# Altium schematic symbol library IC.SchLib: 41 symbols
Pins are listed as number, name and electrical type; pins without a type are passive.

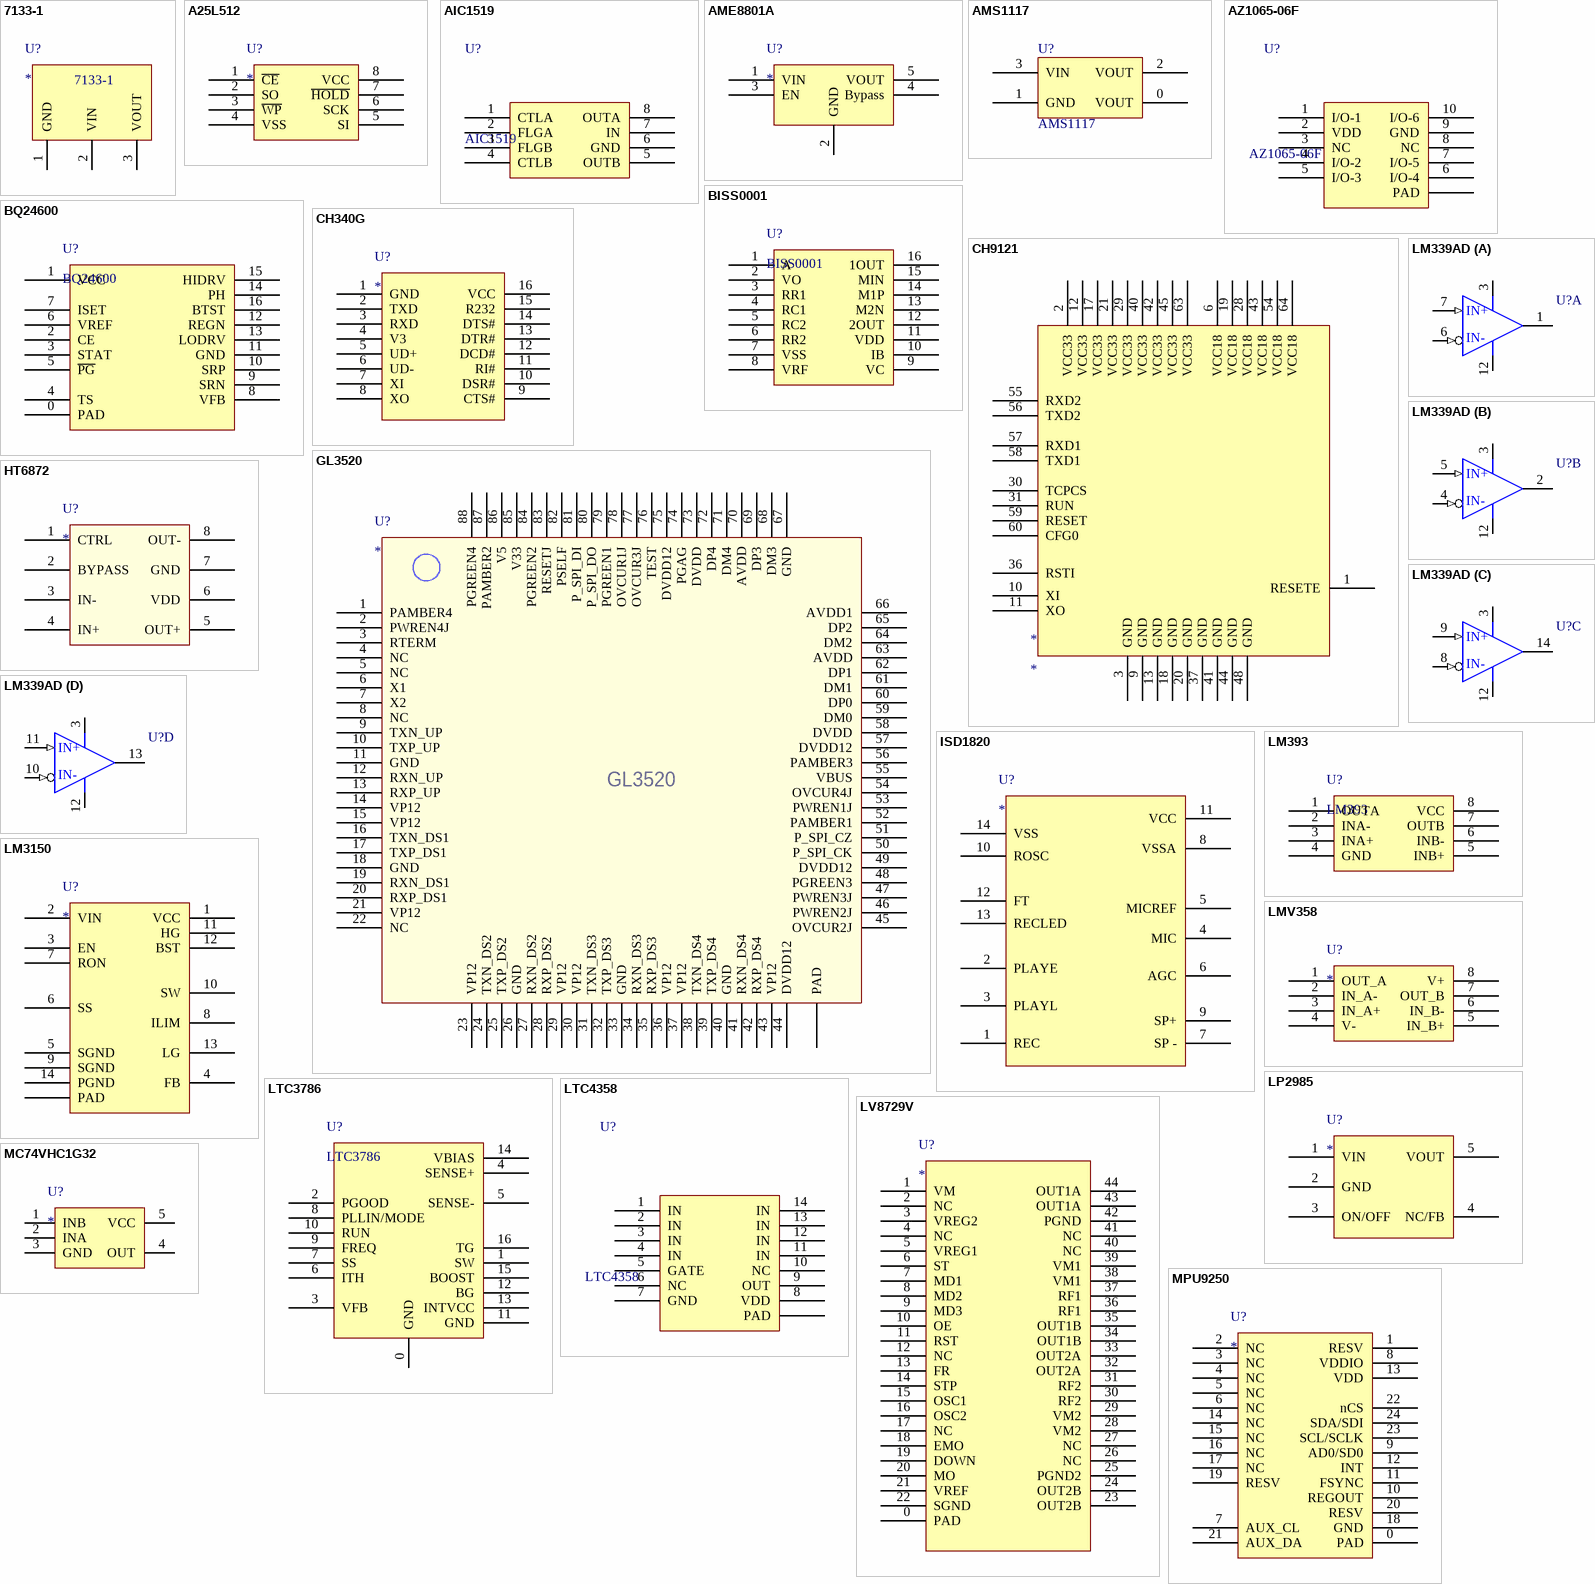
[diagram p0: symbols 7133-1 to MPU9250]

## 7133-1
designator U?
footprint SOT-89-3
pins: 1 GND, 2 VIN, 3 VOUT

## A25L512
designator U?
footprint SOP-8_150mil (SOIC, 8-Leads, Body 4.9x3.9mm, Pitch 1.27mm, IPC Medium Density)
pins: 1 ~{CE}, 2 SO, 3 ~{WP}, 4 VSS, 5 SI, 6 SCK, 7 ~{HOLD}, 8 VCC

## AIC1519
designator U?
Dual USB High-Side Power Switch
footprint SOP-8_150mil (SOIC, 8-Leads, Body 4.9x3.9mm, Pitch 1.27mm, IPC Medium Density)
pins: 1 CTLA, 2 FLGA, 3 FLGB, 4 CTLB, 5 OUTB, 6 GND, 7 IN, 8 OUTA

## AME8801A
designator U?
footprint SOT-23-5
pins: 1 VIN, 2 GND, 3 EN, 4 Bypass, 5 VOUT

## AMS1117
designator U?
Voltage Regulator; Published: 24-Mar-1999; LatestRevisionDate: 17-Jul-2002; LatestRevisionNote: Re-released for DXP Platform.; PackageReference: D2PAK; Publisher: Altium Limited; Code_JEDEC: SMD-220
footprint SOT-223
pins: 0 VOUT, 1 GND, 2 VOUT, 3 VIN

## AZ1065-06F
designator U?
footprint DFN-4120-P10E
pins: 0 PAD, 1 I/O-1, 2 VDD, 3 NC, 4 I/O-2, 5 I/O-3, 6 I/O-4, 7 I/O-5, 8 NC, 9 GND, 10 I/O-6

## BISS0001
designator U?
footprint SOP-16
pins: 1 A, 2 VO, 3 RR1, 4 RC1, 5 RC2, 6 RR2, 7 VSS, 8 VRF, 9 VC, 10 IB, 11 VDD, 12 2OUT, 13 M2N, 14 M1P, 15 MIN, 16 1OUT

## BQ24600
designator U?
Stand-Alone Synchronous Switch-Mode Li-Ion or Li-Polymer Battery Charger  with Low Iq
footprint VQFN-16_3.6x3.6x05P
pins: 0 PAD, 1 VCC, 2 CE, 3 STAT, 4 TS, 5 ~{PG}, 6 VREF, 7 ISET, 8 VFB, 9 SRN, 10 SRP, 11 GND, 12 REGN, 13 LODRV, 14 PH, 15 HIDRV, 16 BTST

## CH340G
designator U?
footprint SOP-16_150mil
pins: 1 GND, 2 TXD, 3 RXD, 4 V3, 5 UD+, 6 UD-, 7 XI, 8 XO, 9 CTS#, 10 DSR#, 11 RI#, 12 DCD#, 13 DTR#, 14 DTS#, 15 R232, 16 VCC

## CH9121
designator *
pins: 1 RESETE, 2 VCC33, 3 GND, 6 VCC18, 9 GND, 10 XI, 11 XO, 12 VCC33, 13 GND, 17 VCC33, 18 GND, 19 VCC18, 20 GND, 21 VCC33, 28 VCC18, 29 VCC33, 30 TCPCS, 31 RUN, 36 RSTI, 37 GND, 40 VCC33, 41 GND, 42 VCC33, 43 VCC18, 44 GND, 45 VCC33, 48 GND, 54 VCC18, 55 RXD2, 56 TXD2, 57 RXD1, 58 TXD1, 59 RESET, 60 CFG0, 63 VCC33, 64 VCC18

## GL3520
designator U?
USB 3.0 Hub Controller
footprint QFN-88
pins: 0 PAD, 1 PAMBER4, 2 PWREN4J, 3 RTERM, 4 NC, 5 NC, 6 X1, 7 X2, 8 NC, 9 TXN_UP, 10 TXP_UP, 11 GND, 12 RXN_UP, 13 RXP_UP, 14 VP12, 15 VP12, 16 TXN_DS1, 17 TXP_DS1, 18 GND, 19 RXN_DS1, 20 RXP_DS1, 21 VP12, 22 NC, 23 VP12, 24 TXN_DS2, 25 TXP_DS2, 26 GND, 27 RXN_DS2, 28 RXP_DS2, 29 VP12, 30 VP12, 31 TXN_DS3, 32 TXP_DS3, 33 GND, 34 RXN_DS3, 35 RXP_DS3, 36 VP12, 37 VP12, 38 TXN_DS4, 39 TXP_DS4, 40 GND, 41 RXN_DS4, 42 RXP_DS4, 43 VP12, 44 DVDD12, 45 OVCUR2J, 46 PWREN2J, 47 PWREN3J, 48 PGREEN3, 49 DVDD12, 50 P_SPI_CK, 51 P_SPI_CZ, 52 PAMBER1, 53 PWREN1J, 54 OVCUR4J, 55 VBUS, 56 PAMBER3, 57 DVDD12, 58 DVDD, 59 DM0, 60 DP0, 61 DM1, 62 DP1, 63 AVDD, 64 DM2, 65 DP2, 66 AVDD1, 67 GND, 68 DM3, 69 DP3, 70 AVDD, 71 DM4, 72 DP4, 73 DVDD, 74 PGAG, 75 DVDD12, 76 TEST, 77 OVCUR3J, 78 OVCUR1J, 79 PGREEN1, 80 P_SPI_DO, 81 P_SPI_DI, 82 PSELF, 83 RESETJ, 84 PGREEN2, 85 V33, 86 V5, 87 PAMBER2, 88 PGREEN4

## HT6872
designator U?
footprint SOP-8_150mil (SOIC, 8-Leads, Body 4.9x3.9mm, Pitch 1.27mm, IPC Medium Density)
pins: 1 CTRL, 2 BYPASS, 3 IN-, 4 IN+, 5 OUT+, 6 VDD, 7 GND, 8 OUT-

## ISD1820
designator U?
ISD1820
footprint DIP-14 (DIP; 14 Leads; Row Spacing 7.62 mm; Pitch 2.54 mm)
pins: 1 REC, 2 PLAYE, 3 PLAYL, 4 MIC, 5 MICREF, 6 AGC, 7 SP -, 8 VSSA, 9 SP+, 10 ROSC, 11 VCC, 12 FT, 13 RECLED, 14 VSS

## LM339AD
designator U?
Quad Differential Comparator; Published: 15-Apr-2002; LatestRevisionDate: 13-Apr-2006; LatestRevisionNote: IPC-7351 Footprint Added.; DatasheetVersion: Apr-1988; PackageVersion: Jan-1998; PackageReference: D014; Publisher: Altium Limited; PackageDescription: 14-Pin Small Outline Integrated Circuit 1.27 mm Pitch; Code_IPC: SOIC127P600-14; ComponentLink1Description: Manufacturer Link; ComponentLink1URL: http://www.ti.com/; ComponentLink2Description: Datasheet; ComponentLink2URL: http://www-s.ti.com/sc/ds/lm139a.pdf
footprint SOIC-14_150mil
footprint DIP-14 (DIP; 14 Leads; Row Spacing 7.62 mm; Pitch 2.54 mm)
pins on every part: 3 VCC (power), 12 GND (power)
part A pins: 1 OUT (oc), 6 IN- (in), 7 IN+ (in)
part B pins: 2 OUT (oc), 4 IN- (in), 5 IN+ (in)
part C pins: 8 IN- (in), 9 IN+ (in), 14 OUT (oc)
part D pins: 10 IN- (in), 11 IN+ (in), 13 OUT (oc)

## LM393
designator U?
footprint SOIC-8_150MIL
pins: 1 OUTA, 2 INA-, 3 INA+, 4 GND, 5 INB+, 6 INB-, 7 OUTB, 8 VCC

## LM3150
designator U?
footprint HTSSOP-14 (LM3150 42V Synchronous Step-Down)
pins: 0 PAD, 1 VCC, 2 VIN, 3 EN, 4 FB, 5 SGND, 6 SS, 7 RON, 8 ILIM, 9 SGND, 10 SW, 11 HG, 12 BST, 13 LG, 14 PGND

## LMV358
designator U?
footprint VSSOP-8_3x3x065P
footprint SOIC-8_150MIL
pins: 1 OUT_A, 2 IN_A-, 3 IN_A+, 4 V-, 5 IN_B+, 6 IN_B-, 7 OUT_B, 8 V+

## LP2985
designator U?
footprint SOT-23-5
pins: 1 VIN, 2 GND, 3 ON/OFF, 4 NC/FB, 5 VOUT

## LTC3786
designator U?
POWER,LINEAR,Synchronous Boost Controller
footprint QFN-16_3x3x05P (QFN, 16-Leads, Body 3.00x3.00mm, Pitch 0.50mm, Thermal Pad 1.70x1.70mm, IPC Medium Density)
pins: 0 GND, 1 SW, 2 PGOOD, 3 VFB, 4 SENSE+, 5 SENSE-, 6 ITH, 7 SS, 8 PLLIN/MODE, 9 FREQ, 10 RUN, 11 GND, 12 BG, 13 INTVCC, 14 VBIAS, 15 BOOST, 16 TG

## LTC4358
designator U?
footprint DFN-14_4*3MM
pins: 0 PAD, 1 IN, 2 IN, 3 IN, 4 IN, 5 GATE, 6 NC, 7 GND, 8 VDD, 9 OUT, 10 NC, 11 IN, 12 IN, 13 IN, 14 IN

## LV8729V
designator U?
footprint SSOP-44K
pins: 0 PAD, 1 VM, 2 NC, 3 VREG2, 4 NC, 5 VREG1, 6 ST, 7 MD1, 8 MD2, 9 MD3, 10 OE, 11 RST, 12 NC, 13 FR, 14 STP, 15 OSC1, 16 OSC2, 17 NC, 18 EMO, 19 DOWN, 20 MO, 21 VREF, 22 SGND, 23 OUT2B, 24 OUT2B, 25 PGND2, 26 NC, 27 NC, 28 VM2, 29 VM2, 30 RF2, 31 RF2, 32 OUT2A, 33 OUT2A, 34 OUT1B, 35 OUT1B, 36 RF1, 37 RF1, 38 VM1, 39 VM1, 40 NC, 41 NC, 42 PGND, 43 OUT1A, 44 OUT1A

## MC74VHC1G32
designator U?
footprint SOT-23-5
pins: 1 INB, 2 INA, 3 GND, 4 OUT, 5 VCC

## MPU9250
designator U?
footprint QFN-24_3X3X04P
pins: 0 PAD, 1 RESV, 2 NC, 3 NC, 4 NC, 5 NC, 6 NC, 7 AUX_CL, 8 VDDIO, 9 AD0/SD0, 10 REGOUT, 11 FSYNC, 12 INT, 13 VDD, 14 NC, 15 NC, 16 NC, 17 NC, 18 GND, 19 RESV, 20 RESV, 21 AUX_DA, 22 nCS, 23 SCL/SCLK, 24 SDA/SDI

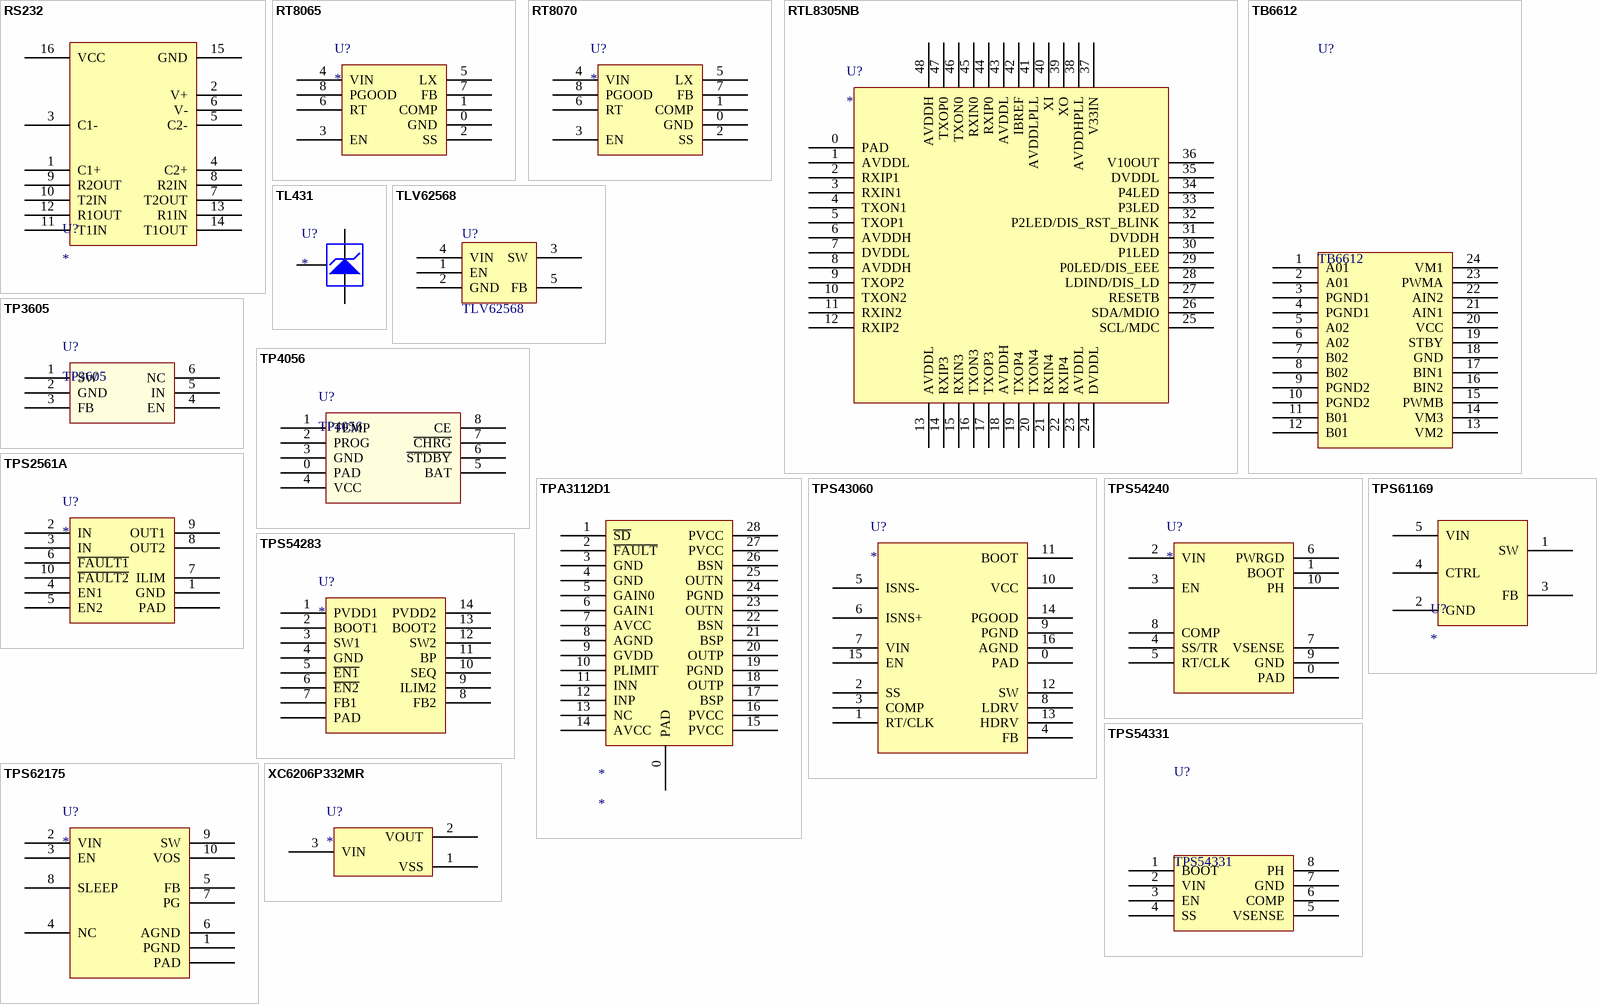
[diagram p1: symbols RS232 to XC6206P332MR]

## RS232
designator U?
footprint SOP-16_150mil
pins: 1 C1+, 2 V+, 3 C1-, 4 C2+, 5 C2-, 6 V-, 7 T2OUT, 8 R2IN, 9 R2OUT, 10 T2IN, 11 T1IN, 12 R1OUT, 13 R1IN, 14 T1OUT, 15 GND, 16 VCC

## RT8065
designator U?
footprint SOP-8_PAD (SOIC, 8-Leads, Body 4.9x3.9mm, Pitch 1.27mm, IPC Medium Density)
pins: 0 GND, 1 COMP, 2 SS, 3 EN, 4 VIN, 5 LX, 6 RT, 7 FB, 8 PGOOD

## RT8070
designator U?
footprint SOP-8_PAD (SOIC, 8-Leads, Body 4.9x3.9mm, Pitch 1.27mm, IPC Medium Density)
pins: 0 GND, 1 COMP, 2 SS, 3 EN, 4 VIN, 5 LX, 6 RT, 7 FB, 8 PGOOD

## RTL8305NB
designator U?
footprint QFN-48_6x6x04P
pins: 0 PAD, 1 AVDDL, 2 RXIP1, 3 RXIN1, 4 TXON1, 5 TXOP1, 6 AVDDH, 7 DVDDL, 8 AVDDH, 9 TXOP2, 10 TXON2, 11 RXIN2, 12 RXIP2, 13 AVDDL, 14 RXIP3, 15 RXIN3, 16 TXON3, 17 TXOP3, 18 AVDDH, 19 TXOP4, 20 TXON4, 21 RXIN4, 22 RXIP4, 23 AVDDL, 24 DVDDL, 25 SCL/MDC, 26 SDA/MDIO, 27 RESETB, 28 LDIND/DIS_LD, 29 P0LED/DIS_EEE, 30 P1LED, 31 DVDDH, 32 P2LED/DIS_RST_BLINK, 33 P3LED, 34 P4LED, 35 DVDDL, 36 V10OUT, 37 V33IN, 38 AVDDHPLL, 39 XO, 40 XI, 41 AVDDLPLL, 42 IBREF, 43 AVDDL, 44 RXIP0, 45 RXIN0, 46 TXON0, 47 TXOP0, 48 AVDDH

## TB6612
designator U?
Driver IC for Dual DC motor
footprint SSOP-24 (SSOP, Plastic; 24 Leads; Body Width 5.3 mm; Pitch 0.65 mm)
pins: 1 A01, 2 A01, 3 PGND1, 4 PGND1, 5 A02, 6 A02, 7 B02, 8 B02, 9 PGND2, 10 PGND2, 11 B01, 12 B01, 13 VM2, 14 VM3, 15 PWMB, 16 BIN2, 17 BIN1, 18 GND, 19 STBY, 20 VCC, 21 AIN1, 22 AIN2, 23 PWMA, 24 VM1

## TL431
designator U?
footprint SOT-23-3
pins: 1, 2, 3

## TLV62568
designator U?
footprint SOT-23-5
pins: 1 EN, 2 GND, 3 SW, 4 VIN, 5 FB

## TP3605
designator U?
footprint SOT-23-6
pins: 1 SW, 2 GND, 3 FB, 4 EN, 5 IN, 6 NC

## TP4056
designator U?
footprint SOP-8_PAD (SOIC, 8-Leads, Body 4.9x3.9mm, Pitch 1.27mm, IPC Medium Density)
pins: 0 PAD, 1 TEMP, 2 PROG, 3 GND, 4 VCC, 5 BAT, 6 ~{STDBY}, 7 ~{CHRG}, 8 CE

## TPA3112D1
designator *
footprint TSSOP-28_PAD
pins: 0 PAD, 1 ~{SD}, 2 ~{FAULT}, 3 GND, 4 GND, 5 GAIN0, 6 GAIN1, 7 AVCC, 8 AGND, 9 GVDD, 10 PLIMIT, 11 INN, 12 INP, 13 NC, 14 AVCC, 15 PVCC, 16 PVCC, 17 BSP, 18 OUTP, 19 PGND, 20 OUTP, 21 BSP, 22 BSN, 23 OUTN, 24 PGND, 25 OUTN, 26 BSN, 27 PVCC, 28 PVCC

## TPS2561A
designator U?
footprint VSON-10
pins: 0 PAD, 1 GND, 2 IN, 3 IN, 4 EN1, 5 EN2, 6 ~{FAULT1}, 7 ILIM, 8 OUT2, 9 OUT1, 10 ~{FAULT2}

## TPS43060
designator U?
POWER,TI,Synchronous Boost Controller
footprint WQFN-16
pins: 0 PAD, 1 RT/CLK, 2 SS, 3 COMP, 4 FB, 5 ISNS-, 6 ISNS+, 7 VIN, 8 LDRV, 9 PGND, 10 VCC, 11 BOOT, 12 SW, 13 HDRV, 14 PGOOD, 15 EN, 16 AGND

## TPS54240
designator U?
POWER,TI,Step-Down Converter
footprint MSOP-10_PAD
pins: 0 PAD, 1 BOOT, 2 VIN, 3 EN, 4 SS/TR, 5 RT/CLK, 6 PWRGD, 7 VSENSE, 8 COMP, 9 GND, 10 PH

## TPS54283
designator U?
footprint HTSSOP-14 (LM3150 42V Synchronous Step-Down)
pins: 0 PAD, 1 PVDD1, 2 BOOT1, 3 SW1, 4 GND, 5 ~{EN1}, 6 ~{EN2}, 7 FB1, 8 FB2, 9 ILIM2, 10 SEQ, 11 BP, 12 SW2, 13 BOOT2, 14 PVDD2

## TPS54331
designator U?
footprint SOIC-8_150MIL
pins: 1 BOOT, 2 VIN, 3 EN, 4 SS, 5 VSENSE, 6 COMP, 7 GND, 8 PH

## TPS61169
designator U?
footprint SOT-23-5
pins: 1 SW, 2 GND, 3 FB, 4 CTRL, 5 VIN

## TPS62175
designator U?
4.5-28V 0.5A Tiny Step-Down Converter
footprint WSON-10_2X3X05P
pins: 0 PAD, 1 PGND, 2 VIN, 3 EN, 4 NC, 5 FB, 6 AGND, 7 PG, 8 SLEEP, 9 SW, 10 VOS

## XC6206P332MR
designator U?
LDO
footprint SOT-23-3
pins: 1 VSS, 2 VOUT, 3 VIN